# EAGLE library part HT82V739 (library audio_amp)
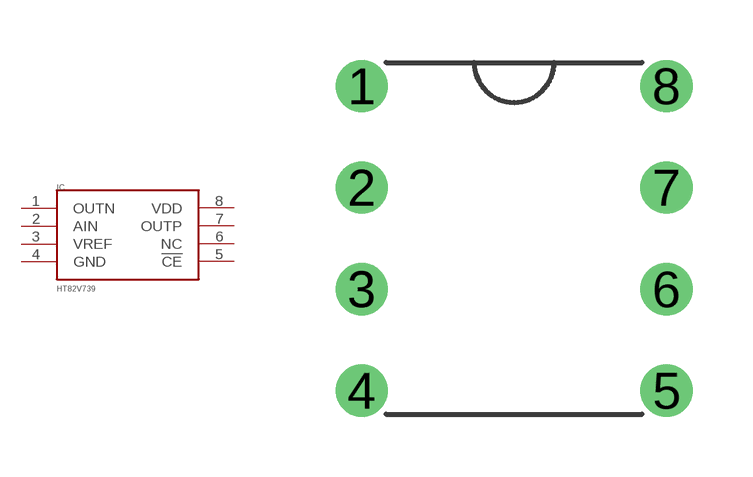
[diagram p1: symbol with the pads of DIP8; footprint DIP8]

Designator prefix IC

## HT82V739  [DIP8]
1  OUTN
2  AIN
3  VREF
4  GND
5  !CE
6  NC
7  OUTP
8  VDD

## Footprint DIP8 (pad centres in mm)
drill 0.8: 1 -3.81,3.81; 2 -3.81,1.27; 3 -3.81,-1.27; 4 -3.81,-3.81; 5 3.81,-3.81; 6 3.81,-1.27; 7 3.81,1.27; 8 3.81,3.81